# Altium schematic symbol library T-Type Converter.SchLib: 29 symbols
Pins are listed as number, name and electrical type; pins without a type are passive.

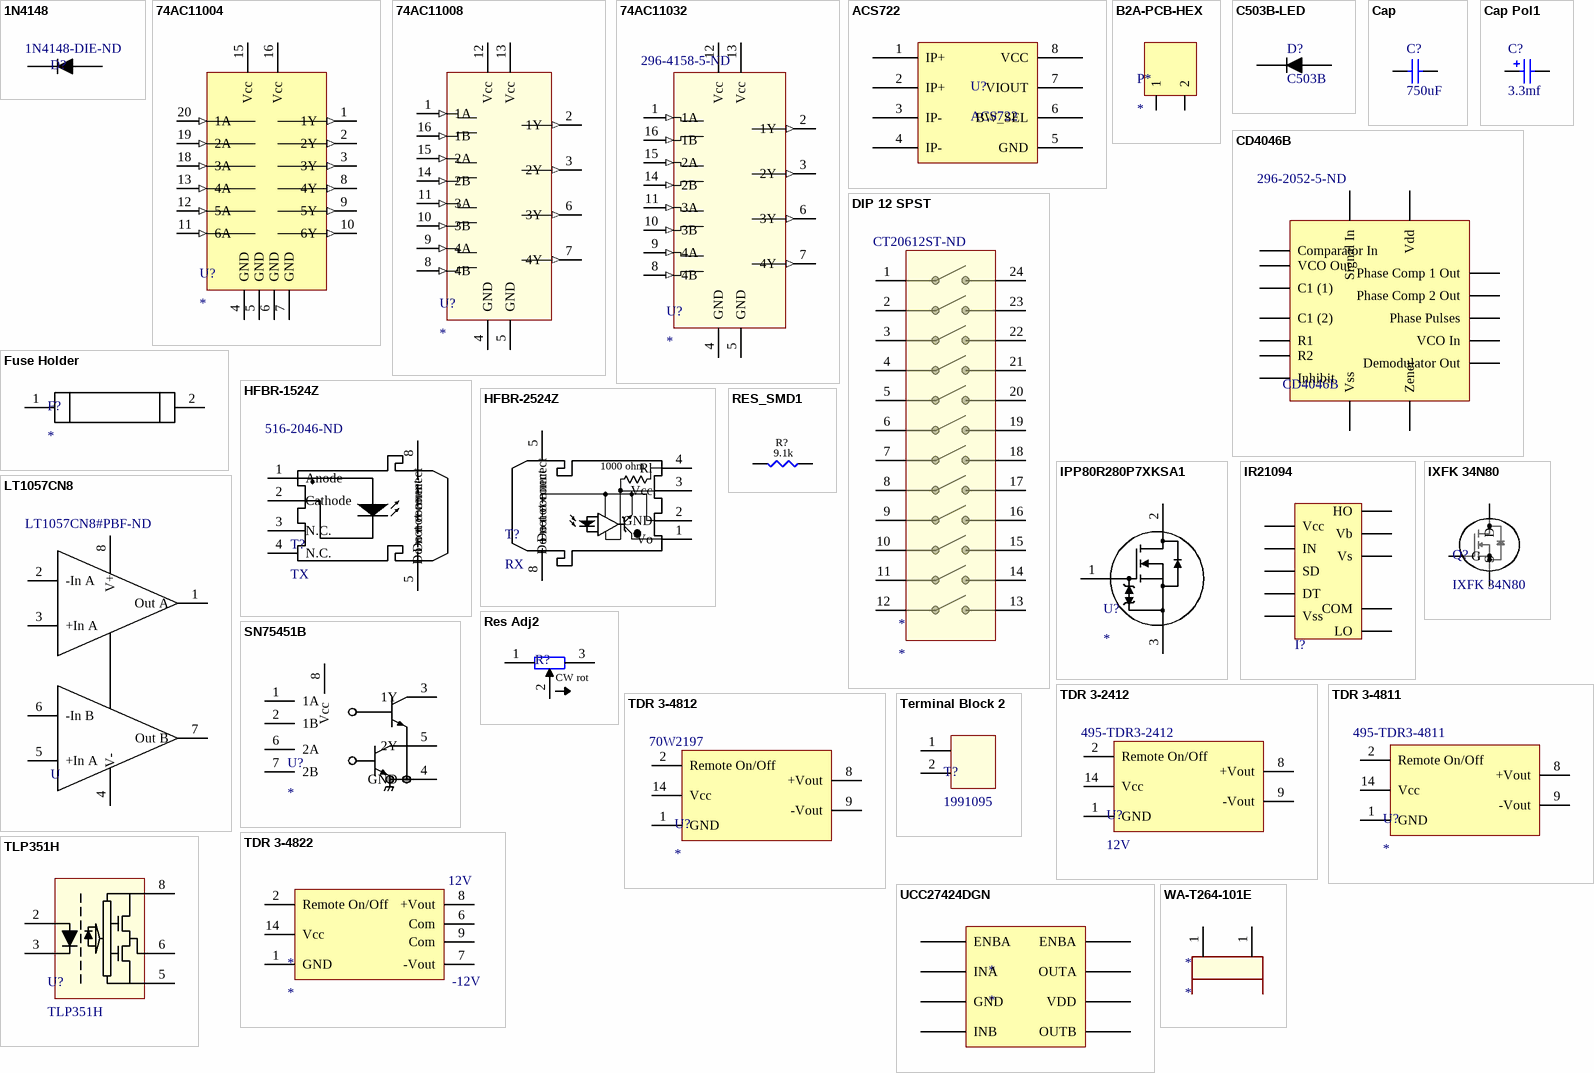
[diagram p0: symbols 1N4148 to WA-T264-101E]

## 1N4148
designator D?  Supplier Part Number 1: 1N4148-DIE-ND  (hidden comment: *)
Diode; Manufacturer: Fairchild Semiconductor; Manufacturer Part Number: 1N4148; Forward Voltage: 1V; Reverse Recovery Time: 4ns; Element Configuration: Single; Polarity: Standard; Current Rating: 200mA; Capacitance: 4pF; Voltage Rating (DC): 100V; Peak Non-Repetitive Surge Current: 4A; Max Forward Surge Current (Ifsm): 1A; Max Power Dissipation: 500mW; Peak Reverse Current: 5uA; Outside Diameter: 1.85mm; Supplier 1: Digi-Key; Stock 1: 0; Pricing 1: 25=4 (USD); Mount: Through Hole; Number of Pins: 2; Weight: 0.01lb; Contact Plating: Tin; Min Operating Temperature: -65°C; Max Operating Temperature: 175°C; Packaging: Bulk; Output Current: 200mA; Forward Current: 200mA; Max Repetitive Reverse Voltage (Vrrm): 100V; Package Quantity: 2000; Recovery Time: 4ns; Max Surge Current: 4A; Reverse Voltage (DC): 100V; Average Rectified Current: 200mA; Power Dissipation: 500mW; Diameter: 1.91mm; Length: 4.56mm; Height: 4.56mm; Width: 1.91mm; Radiation Hardening: No; Lead Free: Lead Free; REACH SVHC: No SVHC; ComponentLink1URL: https://datasheet.ciiva.com/910/1n914-910546.pdf; ComponentLink1Description: https://datasheet.ciiva.com/910/1n914-910546.pdf; ComponentLink2URL: https://datasheet.ciiva.com/1242/1716967-1242233.pdf; ComponentLink2Description: https://datasheet.ciiva.com/1242/1716967-1242233.pdf; ComponentLink3URL: https://datasheet.ciiva.com/3304/fdll914b-3304217.pdf; ComponentLink3Description: https://datasheet.ciiva.com/3304/fdll914b-3304217.pdf; ComponentLink4URL: https://datasheet.ciiva.com/25951/fdll914b-25951516.pdf; ComponentLink4Description: https://datasheet.ciiva.com/25951/fdll914b-25951516.pdf; ComponentLink5URL: https://datasheet.ciiva.com/27049/743285-27049708.pdf; ComponentLink5Description: https://datasheet.ciiva.com/27049/743285-27049708.pdf; ComponentLink6URL: https://datasheet.ciiva.com/16740/1n4148-16740829.pdf; ComponentLink6Description: https://datasheet.ciiva.com/16740/1n4148-16740829.pdf
footprint DO-35_02
pins: 1 Cathode, 2 Anode

## 74AC11004
designator U?
Hex Inverter; Manufacturer: Texas Instruments; Manufacturer Part Number: 74AC11004N; Logic Function: Buffer,Inverter; Number of Elements: 6; Supply Voltage: 5V; Propagation Delay: 10ns; Max Supply Voltage: 5.5V; Min Supply Voltage: 3V; Number of Inputs: 1; Output Current: 24mA; Quiescent Current: 4uA; High Level Output Current: -24mA; Schmitt Trigger Input: No; Supplier 1: Digikey; Stock 1: 747; Pricing 1: 1=2.36, 10=2.12, 100=1.704, 500=1.4, 1000=1.16 (USD); Mount: Through Hole; Case/Package: PDIP; Number of Pins: 20; Weight: 0.042297oz; Contact Plating: Gold; Min Operating Temperature: -40°C; Max Operating Temperature: 85°C; Packaging: Rail/Tube; Package Quantity: 20; Number of Circuits: 6; Low Level Output Current: 24mA; Turn-On Delay Time: 10ns; Number of Gates: 6; Number of Bits: 6; Length: 26.92mm; Height: 4.57mm; Width: 6.6mm; Radiation Hardening: No; Lead Free: Lead Free; REACH SVHC: No SVHC; ComponentLink1URL: https://datasheet.ciiva.com/14289/74ac11004-14289990.pdf; ComponentLink1Description: https://datasheet.ciiva.com/14289/74ac11004-14289990.pdf; ComponentLink2URL: https://datasheet.ciiva.com/1869/74ac11004-1869911.pdf; ComponentLink2Description: https://datasheet.ciiva.com/1869/74ac11004-1869911.pdf; ComponentLink3URL: https://datasheet.ciiva.com/1157/1763878-1157128.pdf; ComponentLink3Description: https://datasheet.ciiva.com/1157/1763878-1157128.pdf; ComponentLink4URL: https://datasheet.ciiva.com/15089/getdatasheetpartid-371764-15089641.pdf; ComponentLink4Description: https://datasheet.ciiva.com/15089/getdatasheetpartid-371764-15089641.pdf; ComponentLink5URL: https://datasheet.ciiva.com/1153/1817335-1153741.pdf; ComponentLink5Description: https://datasheet.ciiva.com/1153/1817335-1153741.pdf; ComponentLink6URL: https://datasheet.ciiva.com/41426/001015348-da-01-en-ic-hex-inverter-7-74ac11004n-pdip-20-tid-41426322.pdf; ComponentLink6Description: https://datasheet.ciiva.com/41426/001015348-da-01-en-ic-hex-inverter-7-74ac11004n-pdip-20-tid-41426322.pdf; Supplier Part Number 1: 296-4153-5-ND
footprint R-PDIP-T20
pins: 1 1Y (out), 2 2Y (out), 3 3Y (out), 4 GND, 5 GND, 6 GND, 7 GND, 8 4Y (out), 9 5Y (out), 10 6Y (out), 11 6A (in), 12 5A (in), 13 4A (in), 15 Vcc (power), 16 Vcc (power), 18 3A (in), 19 2A (in), 20 1A (in)

## 74AC11008
designator U?
AND GATE; Manufacturer: Texas Instruments; Manufacturer Part Number: 74AC11008N; Number of Inputs: 2; Propagation Delay: 6.9ns; Min Supply Voltage: 3V; Max Supply Voltage: 5.5V; Number of Outputs: 1; Supply Voltage: 5V; Output Current: 24mA; Number of Circuits: 4; Quiescent Current: 4uA; High Level Output Current: -24mA; Schmitt Trigger Input: No; Supplier 1: Digikey; Stock 1: 236; Pricing 1: 1=2.36, 10=2.12, 100=1.704, 500=1.4, 1000=1.16 (USD); Mount: Through Hole; Case/Package: DIP; Number of Pins: 16; Weight: 0.03357oz; Contact Plating: Gold; Min Operating Temperature: -40°C; Max Operating Temperature: 85°C; Package Quantity: 25; Packaging: Rail/Tube; Logic Function: AND; Low Level Output Current: 24mA; Number of Gates: 4; Number of Elements: 4; Number of Input Lines: 2; Number of Output Lines: 1; Turn-On Delay Time: 6.9ns; Number of Bits: 4; Length: 19.69mm; Height: 4.57mm; Width: 6.6mm; Radiation Hardening: No; Lead Free: Lead Free; REACH SVHC: No SVHC; ComponentLink1URL: https://datasheet.ciiva.com/1869/74ac11008-1869907.pdf; ComponentLink1Description: https://datasheet.ciiva.com/1869/74ac11008-1869907.pdf; ComponentLink2URL: https://datasheet.ciiva.com/15215/getdatasheetpartid-541532-15215429.pdf; ComponentLink2Description: https://datasheet.ciiva.com/15215/getdatasheetpartid-541532-15215429.pdf; Supplier Part Number 1: 296-4154-5-ND
footprint R-PDIP-T16
pins: 1 1A (in), 2 1Y (out), 3 2Y (out), 4 GND, 5 GND, 6 3Y (out), 7 4Y (out), 8 4B (in), 9 4A (in), 10 3B (in), 11 3A (in), 12 Vcc (power), 13 Vcc (power), 14 2B (in), 15 2A (in), 16 1B (in)

## 74AC11032
designator U?  Supplier Part Number 1: 296-4158-5-ND
OR GATE; Manufacturer: Texas Instruments; Manufacturer Part Number: 74AC11032N; Min Supply Voltage: 3V; Max Supply Voltage: 5.5V; Propagation Delay: 6.7ns; Supply Voltage: 5V; Number of Outputs: 1; Number of Inputs: 2; Number of Circuits: 4; Quiescent Current: 4uA; High Level Output Current: -24mA; Low Level Output Current: 24mA; Schmitt Trigger Input: No; Supplier 1: Digikey; Stock 1: 1085; Pricing 1: 1=2.36, 10=2.12, 100=1.704, 500=1.4, 1000=1.16 (USD); Mount: Through Hole; Case/Package: PDIP; Number of Pins: 16; Weight: 0.03357oz; Contact Plating: Gold; Min Operating Temperature: -40°C; Max Operating Temperature: 85°C; Package Quantity: 25; Packaging: Rail/Tube; Logic Function: OR; Number of Gates: 4; Number of Elements: 4; Output Current: 24mA; Number of Input Lines: 2; Number of Output Lines: 1; Turn-On Delay Time: 6.7ns; Number of Bits: 4; Length: 19.69mm; Height: 4.57mm; Width: 6.6mm; Radiation Hardening: No; Lead Free: Lead Free; REACH SVHC: No SVHC; ComponentLink1URL: https://datasheet.ciiva.com/1153/74ac11032-1153745.pdf; ComponentLink1Description: https://datasheet.ciiva.com/1153/74ac11032-1153745.pdf; ComponentLink2URL: https://datasheet.ciiva.com/1869/74ac11032-1869912.pdf; ComponentLink2Description: https://datasheet.ciiva.com/1869/74ac11032-1869912.pdf
footprint R-PDIP-T16
pins: 1 1A (in), 2 1Y (out), 3 2Y (out), 4 GND, 5 GND, 6 3Y (out), 7 4Y (out), 8 4B (in), 9 4A (in), 10 3B (in), 11 3A (in), 12 Vcc (power), 13 Vcc (power), 14 2B (in), 15 2A (in), 16 1B (in)

## ACS722
designator U?
Hall effect current sensor; Manufacturer: Allegro MicroSystems; Manufacturer Part Number: ACS722LLCTR-40AB-T; Number of Channels: 1; Frequency: 80KHz; Response Time: 5us; Max Supply Current: 12mA; Polarity: Bidirectional; Linearity: 1%; Accuracy: 3%; Current Sensing: 40A; Quiescent Current: 9mA; Supplier 1: Digikey; Stock 1: 11909; Pricing 1: 1=5.54, 5=4.886, 10=4.316, 25=3.5012, 50=3.0942, 100=3.0128, 500=2.5243, 1000=2.3614 (USD); Case/Package: SOIC; Number of Pins: 8; Min Operating Temperature: -40°C; Max Operating Temperature: 150°C; Packaging: Tape and Reel; Bandwidth: 80KHz; ComponentLink1URL: http://components.arrow.com/part/dataview/65167566S746144N6817; ComponentLink1Description: http://components.arrow.com/part/dataview/65167566S746144N6817; Supplier Part Number 1: 620-1639-6-ND
footprint SOIC8
pins: 1 IP+, 2 IP+, 3 IP-, 4 IP-, 5 GND, 6 BW_SEL, 7 VIOUT, 8 VCC

## B2A-PCB-HEX
designator P*
PN: B2A-PCB-HEX; URL: https://lugsdirect.com/IHI_HIGH_CURRENT_PCB-TERMINALS-_SELECTION_CHART2.htm#85A
footprint B2A-PCB-HEX (B2A-PCB-HEX Lug)
pins: 1, 2

## C503B-LED
designator D?, comment C503B
Green TH LED; Supplier 1: Digi-Key; Supplier Part Number 1: C503B-GCN-CY0C0791-ND
footprint CD503-GN-LED (Green LED)
pins: 1 Cathode, 2 Anode

## Cap
designator C?  value 750uF  (hidden comment: Cap)
Capacitor; Published: 8-Jun-2000; LatestRevisionDate: 17-Jul-2002; LatestRevisionNote: Re-released for DXP Platform.; PackageReference: RAD-0.3; Publisher: Altium Limited; PackageDescription: Radial Cap, Thru-Hole; 2 Leads; 0.3 in Pin Spacing
footprint RAD-0.3 (Radial Cap, Thru-Hole; 2 Leads; 0.3 in Pin Spacing)
simulation model CAP (Capacitor)
signal-integrity model Cap
footprint R_1206
pins: 1, 2

## Cap Pol1
designator C?  value 3.3mf  (hidden comment: Cap Pol1)
Polarized Capacitor (Radial); Published: 8-Jun-2000; LatestRevisionDate: 17-Jul-2002; LatestRevisionNote: Re-released for DXP Platform.; PackageReference: RB7.6-15; Publisher: Altium Limited; PackageDescription: Polarized Capacitor (Radial); 2 Leads
footprint RB7.6-15 (Polarized Capacitor (Radial); 2 Leads)
simulation model CAP (Capacitor)
signal-integrity model Cap Pol
footprint LGW2G331MELB40 (Capacitor)
footprint B32674D3126K000 (Film cap)
pins: 1, 2
1 alternate drawing of the same symbol

## CD4046B
designator CD4046B  Supplier Part Number 1: 296-2052-5-ND  (hidden comment: CD4046B)
VCO; Manufacturer: Texas Instruments; Manufacturer Part Number: CD4046BE; Max Supply Voltage: 18V; Min Supply Voltage: 3V; Number of Elements: 1; Frequency: 2.4MHz; Nominal Supply Current: 10mA; Input: CMOS; PLL: Yes; Supplier 1: Digikey; Stock 1: 1216; Pricing 1: 1=0.56, 10=0.476, 100=0.3556, 500=0.2794, 1000=0.2159 (USD); Mount: Through Hole; Case/Package: DIP; Number of Pins: 16; Weight: 0.03357oz; Contact Plating: Gold; Min Operating Temperature: -55°C; Max Operating Temperature: 125°C; Packaging: Rail/Tube; Number of Circuits: 1; Number of Bits: 1; Package Quantity: 25; Max Frequency: 2.4MHz; Radiation Hardening: No; Lead Free: Lead Free; REACH SVHC: No SVHC; ComponentLink1URL: https://datasheet.ciiva.com/14134/cd4046b-eng-tds-14134658.pdf; ComponentLink1Description: https://datasheet.ciiva.com/14134/cd4046b-eng-tds-14134658.pdf; ComponentLink2URL: https://datasheet.ciiva.com/15153/getdatasheetpartid-241639-15153402.pdf; ComponentLink2Description: https://datasheet.ciiva.com/15153/getdatasheetpartid-241639-15153402.pdf; ComponentLink3URL: https://datasheet.ciiva.com/14247/cd4046b-14247052.pdf; ComponentLink3Description: https://datasheet.ciiva.com/14247/cd4046b-14247052.pdf; ComponentLink4URL: https://datasheet.ciiva.com/26229/cd4046b-mil-26229407.pdf; ComponentLink4Description: https://datasheet.ciiva.com/26229/cd4046b-mil-26229407.pdf; ComponentLink5URL: https://datasheet.ciiva.com/27050/817951-27050191.pdf; ComponentLink5Description: https://datasheet.ciiva.com/27050/817951-27050191.pdf; ComponentLink6URL: https://datasheet.ciiva.com/29297/172880-da-01-en-c-mos-ic-cd4046be-dip16-tid-29297245.pdf; ComponentLink6Description: https://datasheet.ciiva.com/29297/172880-da-01-en-c-mos-ic-cd4046be-dip16-tid-29297245.pdf
footprint DIP16
footprint DIP16
pins: 1 Phase Pulses, 2 Phase Comp 1 Out, 3 Comparator In, 4 VCO Out, 5 Inhibit, 6 C1 (1), 7 C1 (2), 8 Vss, 9 VCO In, 10 Demodulator Out, 11 R1, 12 R2, 13 Phase Comp 2 Out, 14 Signal In, 15 Zener, 16 Vdd

## DIP 12 SPST
designator *  Supplier Part Number 1: CT20612ST-ND
Manufacturer: CTS Electrocomponents; Manufacturer Part Number: 206-12ST; Body Material: Plastic; Throw Configuration: SPST; Number of Positions: 12; Voltage Rating (DC): 24V; Max Current Rating: 50mA; Electrical Life: 10000Cycles; Pitch: 0.1inch; Washable: Yes; Supplier 1: Digi-Key; Stock 1: 2620; Pricing 1: 1=1.41, 10=1.33, 25=1.2752, 50=1.194, 100=1.1668, 250=1.0312, 500=0.9769, 1000=0.8684, 5000=0.7598 (USD); Mount: Through Hole; Case/Package: DIP; Contact Plating: Tin,Gold; Contact Material: Copper; Min Operating Temperature: -55°C; Max Operating Temperature: 85°C; Packaging: Rail/Tube; Termination: PC Pin; Package Quantity: 15; Orientation: Straight; Current Rating: 50mA; Length: 1.286inch; Depth: 9.78mm; Terminal Pitch: 2.54mm; Radiation Hardening: No; Lead Free: Lead Free; ComponentLink1URL: https://datasheet.ciiva.com/26926/getdatasheetpartid-771341-26926550.pdf; ComponentLink1Description: https://datasheet.ciiva.com/26926/getdatasheetpartid-771341-26926550.pdf; ComponentLink2URL: https://datasheet.ciiva.com/2864/206-208-2864231.pdf; ComponentLink2Description: https://datasheet.ciiva.com/2864/206-208-2864231.pdf; ComponentLink3URL: https://datasheet.ciiva.com/15184/getdatasheetpartid-112074-15184826.pdf; ComponentLink3Description: https://datasheet.ciiva.com/15184/getdatasheetpartid-112074-15184826.pdf; ComponentLink4URL: https://datasheet.ciiva.com/17068/206-208-17068348.pdf; ComponentLink4Description: https://datasheet.ciiva.com/17068/206-208-17068348.pdf
footprint DIP12 SPST
pins: 1 (power), 2 (power), 3 (power), 4 (power), 5 (power), 6 (power), 7 (power), 8 (power), 9 (power), 10 (power), 11 (power), 12 (power), 13 (power), 14 (power), 15 (power), 16 (power), 17 (power), 18 (power), 19 (power), 20 (power), 21 (power), 22 (power), 23 (power), 24 (power)

## Fuse Holder
designator F?
Fuse Holder; Manufacturer: Littelfuse; Manufacturer Part Number: 01220093Z; Body Material: Copper; Material: Copper,Tin; Current Rating: 30A; Voltage Rating: 250V; Number of Circuits: 1; Supplier 1: Digi-Key; Stock 1: 10489; Pricing 1: 1=0.72, 5=0.696, 10=0.674, 50=0.5672, 100=0.4708, 250=0.428, 500=0.3638, 1000=0.321, 5000=0.2889 (USD); Mount: Horizontal,PCB; Packaging: Bulk; Package Quantity: 1000; Termination: PC Pin; Voltage: 250V; Length: 7.11mm; Height: 10.67mm; Width: 7.87mm; Depth: 9.4mm; Lead Free: Lead Free; ComponentLink1URL: https://datasheet.ciiva.com/295/littelfuse-fuse-clips-295529.pdf; ComponentLink1Description: https://datasheet.ciiva.com/295/littelfuse-fuse-clips-295529.pdf; Supplier Part Number 1: F4185-ND
footprint Fuse footprint
pins: 1 (power), 2 (power)

## HFBR-1524Z
designator T?, comment TX  Supplier Part Number 1: 516-2046-ND
Otical Transmitter; Manufacturer: Broadcom Avago; Manufacturer Part Number: HFBR-1524Z; Wavelength: 660nm; Capacitance: 86pF; Forward Voltage: 1.67V; Data Rate: 1Mbps; Reverse Voltage (DC): 5V; Forward Current: 80mA; Max Output Current: 5.1mA; Rise Time: 80ns; Fall Time: 40ns; Supplier 1: Digikey; Stock 1: 1574; Pricing 1: 1=11.66, 10=10.56, 25=8.36, 100=7.04, 250=6.6, 500=6.05, 1000=5.72 (USD); Mount: Through Hole; Case/Package: 600; Number of Pins: 6; Min Operating Temperature: -40°C; Max Operating Temperature: 85°C; Package Quantity: 200; Supply Voltage: 5V; Packaging: Rail/Tube; Length: 18.8mm; Height: 7.62mm; Width: 10.2mm; Radiation Hardening: No; REACH SVHC: No SVHC; Lead Free: Lead Free; ComponentLink1URL: https://datasheet.ciiva.com/27056/2062150-27056536.pdf; ComponentLink1Description: https://datasheet.ciiva.com/27056/2062150-27056536.pdf; ComponentLink2URL: https://datasheet.ciiva.com/18408/70158101-18408620.pdf; ComponentLink2Description: https://datasheet.ciiva.com/18408/70158101-18408620.pdf; ComponentLink3URL: https://datasheet.ciiva.com/26913/hfbr-1524z-26913686.pdf; ComponentLink3Description: https://datasheet.ciiva.com/26913/hfbr-1524z-26913686.pdf
footprint Optics
footprint Optics
pins: 1 Anode, 2 Cathode, 3 N.C., 4 N.C., 5 Do not connect, 8 Do not connect

## HFBR-2524Z
designator T?, comment RX
Optical Reciever
footprint Optics
pins: 1 Vo, 2 GND, 3 Vcc, 4 Rl, 5 Do not connect, 8 Do not connect
text: 1000 ohm

## IPP80R280P7XKSA1
designator U?
MOSFET; Manufacturer: Infineon; Manufacturer Part Number: IPP80R280P7XKSA1; Supplier 1: Digikey; Stock 1: 370; Pricing 1: 1=3.89, 10=3.495, 100=2.8638, 500=2.4379, 1000=2.0561 (USD); Supplier Part Number 1: IPP80R280P7XKSA1-ND
footprint IPP65R110CFD
pins: 1 Gate, 2 Drain, 3 Source

## IR21094
designator I?  (value not drawn)
HALF-BRIDGE DRIVER
footprint DIP14
pins: 1 Vcc, 2 IN, 3 SD, 4 DT, 5 Vss, 6 COM, 7 LO, 11 Vs, 12 HO, 13 Vb

## IXFK 34N80
designator Q?
MOSFET 34A; Manufacturer: IXYS; Rise Time: 45ns; Rds On Max: 240mR; Input Capacitance: 7.5nF; Recovery Time: 250ns; Drain to Source Breakdown Voltage: 800V; Fall Time: 40ns; Power Dissipation: 560W; Turn-Off Delay Time: 100ns; Element Configuration: Single; Gate to Source Voltage (Vgs): 20V; Supplier 1: Digikey; Manufacturer Part Number: IXFK34N80; Stock 1: 25; Pricing 1: 1=22.64, 10=20.94, 25=19.2424, 100=17.884, 250=16.4126 (USD); Case/Package: TO-264-3; Min Operating Temperature: -55°C; Max Operating Temperature: 150°C; Package Quantity: 25; Packaging: Rail/Tube; Continuous Drain Current (ID): 34A; Drain to Source Resistance: 240mR; Drain to Source Voltage (Vdss): 800V; Max Power Dissipation: 560W; Current Rating: 34A; Voltage Rating (DC): 800V; Lead Free: Lead Free; ComponentLink1URL: https://datasheet.ciiva.com/4446/98560-63299-4446514.pdf; ComponentLink1Description: https://datasheet.ciiva.com/4446/98560-63299-4446514.pdf; ComponentLink2URL: https://datasheet.ciiva.com/16298/98560-16298076.pdf; ComponentLink2Description: https://datasheet.ciiva.com/16298/98560-16298076.pdf; ComponentLink3URL: https://datasheet.ciiva.com/940/98560-940430.pdf; ComponentLink3Description: https://datasheet.ciiva.com/940/98560-940430.pdf; ComponentLink4URL: https://datasheet.ciiva.com/14110/tb612985-e-14110030.pdf; ComponentLink4Description: https://datasheet.ciiva.com/14110/tb612985-e-14110030.pdf; ComponentLink5URL: https://datasheet.ciiva.com/26791/ixfk34n80-26791415.pdf; ComponentLink5Description: https://datasheet.ciiva.com/26791/ixfk34n80-26791415.pdf; Supplier Part Number 1: IXFK34N80-ND
footprint TO-264 AA (Power Mosfet)
pins: 1 G, 2 D, 3 S

## LT1057CN8
designator U  Supplier Part Number 2: LT1057CN8#PBF-ND  (hidden comment: LT1057CN8)
Dual Op-Amp; Manufacturer: STMicroelectronics; Manufacturer Part Number: LMV321LICT; Min Supply Voltage: 2.7V; Max Supply Voltage: 5.5V; Voltage Gain: 100dB; Common Mode Rejection Ratio: 72dB; Gain Bandwidth Product: 1.3MHz; Slew Rate: 0.7V/µs; Number of Channels: 1; Output Current: 46mA; Nominal Supply Current: 220uA; Input Bias Current: 27nA; Input Offset Voltage (Vos): 1mV; Operating Supply Current: 130uA; Output Current per Channel: 70mA; Dual Supply Voltage: 9V; Min Dual Supply Voltage: 4V; Max Dual Supply Voltage: 20V; Nominal Gain Bandwidth Product: 5MHz; Power Supply Rejection Ratio (PSRR): 86dB; Max Supply Current: 5.6mA; Number of Amplifiers: 2; Supplier 1: Digi-Key; Stock 1: 42978; Pricing 1: 1=0.45, 10=0.363, 100=0.2472, 500=0.1854, 1000=0.1391 (USD); Mount: Surface Mount; Case/Package: SC; Number of Pins: 5; Contact Plating: Tin; Min Operating Temperature: -40°C; Max Operating Temperature: 125°C; Package Quantity: 1; Packaging: Tape and Reel; Number of Circuits: 1; Number of Elements: 1; Unity Gain Bandwidth Product: 1.3MHz; Radiation Hardening: No; Lead Free: Lead Free; ComponentLink1URL: https://datasheet.ciiva.com/6629/dm00052423-6629957.pdf; ComponentLink1Description: https://datasheet.ciiva.com/6629/dm00052423-6629957.pdf; ComponentLink2URL: https://datasheet.ciiva.com/6629/dm00052423-6629958.pdf; ComponentLink2Description: https://datasheet.ciiva.com/6629/dm00052423-6629958.pdf; ComponentLink3URL: https://datasheet.ciiva.com/13063/dm00052423-100852-13063497.pdf; ComponentLink3Description: https://datasheet.ciiva.com/13063/dm00052423-100852-13063497.pdf; ComponentLink4URL: https://datasheet.ciiva.com/16394/dm00052423-16394346.pdf; ComponentLink4Description: https://datasheet.ciiva.com/16394/dm00052423-16394346.pdf; ComponentLink5URL: https://datasheet.ciiva.com/2966/dm00052423-2966011.pdf; ComponentLink5Description: https://datasheet.ciiva.com/2966/dm00052423-2966011.pdf; ComponentLink6URL: https://datasheet.ciiva.com/41459/001184777-da-01-en-ic-op-amp-sgl-r-r-lmv321lict-sc-70-5-stm-41459586.pdf; ComponentLink6Description: https://datasheet.ciiva.com/41459/001184777-da-01-en-ic-op-amp-sgl-r-r-lmv321lict-sc-70-5-stm-41459586.pdf; Supplier Part Number 1: 497-13050-6-ND; Supplier 2: Digi-Key; Stock 2: 1166; Pricing 2: 1=4.92, 25=3.27, 100=2.55 (USD); Bandwidth: 5MHz; Length: 10.16mm; Height: 3.3mm; Width: 6.48mm; REACH SVHC: No SVHC; ComponentLink7URL: https://datasheet.ciiva.com/19474/1728554-19474778.pdf; ComponentLink7Description: https://datasheet.ciiva.com/19474/1728554-19474778.pdf; ComponentLink8URL: https://datasheet.ciiva.com/1794/3824-1794779.pdf; ComponentLink8Description: https://datasheet.ciiva.com/1794/3824-1794779.pdf; ComponentLink9URL: https://datasheet.ciiva.com/5704/1712178-5704285.pdf; ComponentLink9Description: https://datasheet.ciiva.com/5704/1712178-5704285.pdf; ComponentLink10URL: https://datasheet.ciiva.com/26344/679699-da-01-en-ic-lt1057cn8-pbf-pdip-8-ltc-26344373.pdf; ComponentLink10Description: https://datasheet.ciiva.com/26344/679699-da-01-en-ic-lt1057cn8-pbf-pdip-8-ltc-26344373.pdf
footprint N8 PDIP
pins: 1 Out A (power), 2 -In A (power), 3 +In A (power), 4 V- (power), 5 +In A (power), 6 -In B (power), 7 Out B (power), 8 V+ (power)

## Res Adj2
designator R?  (value not drawn)
Variable Resistor; Manufacturer: Nidec Copal; Manufacturer Part Number: CT-6EP103; Set Position: 0.5; Resistance: 10KR; Tolerance: 10%; Number of Turns: 1; Max Power Dissipation: 500mW; Temperature Coefficient: 100ppm/°C; Published: 8-Jun-2000; LatestRevisionDate: 17-Jul-2002; LatestRevisionNote: Re-released for DXP Platform.; PackageReference: AXIAL-0.6; Publisher: Altium Limited; PackageDescription: Axial Device, Thru-Hole; 2 Leads; 0.6 in Pin Spacing; Supplier 1: Digikey; Stock 1: 31633; Pricing 1: 1=0.79, 10=0.711, 25=0.6428, 50=0.6196, 100=0.5852, 250=0.5623, 500=0.5279, 1000=0.4361, 5000=0.3557 (USD); Mount: Through Hole; Weight: 510mg; Colour: Blue; Contact Plating: Tin; Min Operating Temperature: -55°C; Max Operating Temperature: 120°C; Packaging: Bulk; Composition: Potentiometer; Termination: PC Pins; Length: 0.228inch; Lead Free: Lead Free; ComponentLink1URL: https://datasheet.ciiva.com/2156/ct-6-2156122.pdf; ComponentLink1Description: https://datasheet.ciiva.com/2156/ct-6-2156122.pdf; Supplier Part Number 1: CT6EP103-ND
footprint AXIAL-0.6 (Axial Device, Thru-Hole; 2 Leads; 0.6 in Pin Spacing)
simulation model VRES (Variable Resistor)
signal-integrity model Res Adj
footprint CT-6EP (pot)
pins: 1, 2 3, 3
text: CW rot

## RES_SMD1
designator R?, comment 9.1k
RES SMD 1% 1/4W 1206; Manufacturer: Panasonic Electronic Components; Manufacturer Part Number: ERJ-8ENF9101V; Power (Watts): 0.25W, 1/4W; Temperature Coefficient: ±100ppm/°C; Supplier 1: Digi-Key; RoHS: RoHS Compliant; Category: Resistors; Stock 1: 17632; Pricing 1: 1=0.15, 50=0.0424, 100=0.0313, 250=0.02384, 500=0.01908, 1000=0.01404 (CAD); Packaging: Digi-Reel®; Part Status: Active; Value: 9.1k; Tolerance: ±1%; Composition: Thick Film; Features: Automotive AEC-Q200; Operating Temperature: -55°C ~ 155°C; Package / Case: 1206 (3216 Metric); Supplier Device Package: 1206; Size / Dimension: 0.126" L x 0.063" W (3.20mm x 1.60mm); Height: 0.028" (0.70mm); Number of Terminations: 2; Failure Rate: -; ComponentLink1URL: http://industrial.panasonic.com/www-cgi/jvcr13pz.cgi?E+PZ+3+AOA0002+ERJ8ENF9101V+7+WW; ComponentLink1Description: http://industrial.panasonic.com/www-cgi/jvcr13pz.cgi?E+PZ+3+AOA0002+ERJ8ENF9101V+7+WW; Supplier Part Number 1: P9.10KFDKR-ND
footprint R_1206
pins: 1, 2

## SN75451B
designator U?
Dual Peripheral Drivers; Manufacturer: Texas Instruments; Manufacturer Part Number: SN75451BP; Number of Outputs: 2; Output Voltage: 30V; Output Current: 400mA; Propagation Delay: 25ns; Nominal Supply Current: 65mA; Turn-On Delay Time: 8ns; Turn-Off Delay Time: 12ns; Max Input Voltage: 5.5V; Max Power Dissipation: 1W; Min Supply Voltage: 4.75V; Max Supply Voltage: 5.25V; Supplier 1: Digi-Key; Stock 1: 2217; Pricing 1: 1=0.89, 10=0.794, 100=0.6187, 500=0.5111, 1000=0.4035 (USD); Case/Package: PDIP; Number of Pins: 8; Weight: 0.015535oz; Min Operating Temperature: 0°C; Max Operating Temperature: 70°C; Packaging: Rail/Tube; Package Quantity: 50; Number of Drivers: 2; Power Dissipation: 1W; Max Supply Current: 65mA; Length: 9.81mm; Height: 4.57mm; Width: 6.35mm; Radiation Hardening: No; Lead Free: Lead Free; REACH SVHC: No SVHC; ComponentLink1URL: https://datasheet.ciiva.com/1501/1387986-1501952.pdf; ComponentLink1Description: https://datasheet.ciiva.com/1501/1387986-1501952.pdf; ComponentLink2URL: https://datasheet.ciiva.com/1609/slrs021b-1609184.pdf; ComponentLink2Description: https://datasheet.ciiva.com/1609/slrs021b-1609184.pdf; ComponentLink3URL: https://datasheet.ciiva.com/15115/getdatasheetpartid-134903-15115475.pdf; ComponentLink3Description: https://datasheet.ciiva.com/15115/getdatasheetpartid-134903-15115475.pdf; ComponentLink4URL: https://datasheet.ciiva.com/14180/nr645830-645832-e-14180149.pdf; ComponentLink4Description: https://datasheet.ciiva.com/14180/nr645830-645832-e-14180149.pdf; ComponentLink5URL: https://datasheet.ciiva.com/3303/sn75453b-3303271.pdf; ComponentLink5Description: https://datasheet.ciiva.com/3303/sn75453b-3303271.pdf; ComponentLink6URL: https://datasheet.ciiva.com/16470/sn75453b-16470791.pdf; ComponentLink6Description: https://datasheet.ciiva.com/16470/sn75453b-16470791.pdf; ComponentLink7URL: https://datasheet.ciiva.com/26229/sn75453b-26229559.pdf; ComponentLink7Description: https://datasheet.ciiva.com/26229/sn75453b-26229559.pdf; ComponentLink8URL: https://datasheet.ciiva.com/19477/1054748-19477417.pdf; ComponentLink8Description: https://datasheet.ciiva.com/19477/1054748-19477417.pdf; ComponentLink9URL: https://datasheet.ciiva.com/1949/sn75452b-1949982.pdf; ComponentLink9Description: https://datasheet.ciiva.com/1949/sn75452b-1949982.pdf; ComponentLink10URL: https://datasheet.ciiva.com/1501/1829915-1501951.pdf; ComponentLink10Description: https://datasheet.ciiva.com/1501/1829915-1501951.pdf; ComponentLink11URL: https://datasheet.ciiva.com/41462/001014510-da-01-en-ic-dual-peripheral-sn75451bp-pdip-8-tid-41462363.pdf; ComponentLink11Description: https://datasheet.ciiva.com/41462/001014510-da-01-en-ic-dual-peripheral-sn75451bp-pdip-8-tid-41462363.pdf; Supplier Part Number 1: 296-1746-5-ND
footprint R-PDIP-T8
pins: 1 1A (power), 2 1B (power), 3 1Y (power), 4 GND (power), 5 2Y (power), 6 2A (power), 7 2B (power), 8 Vcc (power)

## TDR 3-2412
designator U?, comment 12V  Supplier Part Number 1: 495-TDR3-2412
12V DC-DC Converter; Manufacturer: Traco Power; Manufacturer Part Number: TDR3-2412; Nominal Input Voltage: 24V; Output Current: 250mA; Number of Outputs: 1; Efficiency: 82%; Min Input Voltage: 18V; Max Input Voltage: 36V; Max Output Power: 3W; Isolation Voltage: 1.5kV; Supplier 1: Mouser; Stock 1: 9; Pricing 1: 1=31.28, 10=29.54, 50=25.71, 100=25.71, 1000=25.71, 10000=25.71 (USD); Case/Package: DIP; Min Operating Temperature: -40°C; Max Operating Temperature: 85°C; Output Voltage: 12V; Nominal Output Voltage: 12V; Max Output Current: 250mA; Min Input Voltage (DC): 18V; Max Input Voltage (DC): 36V; Voltage - Output 1: 12V; Current - Output 1: 250mA; Length: 18.9mm; Height: 8.7mm; Width: 12.8mm; Depth: 18.9mm; REACH SVHC: No SVHC; ComponentLink1URL: http://uk.rs-online.com/webdocs/0e35/0900766b80e35ed7.pdf; ComponentLink1Description: http://uk.rs-online.com/webdocs/0e35/0900766b80e35ed7.pdf; ComponentLink2URL: http://www.farnell.com/datasheets/1763516.pdf; ComponentLink2Description: http://www.farnell.com/datasheets/1763516.pdf; ComponentLink3URL: http://docs-usa.electrocomponents.com/techlib:/itc_doclist_US.htm?stockno=7065593; ComponentLink3Description: http://docs-usa.electrocomponents.com/techlib:/itc_doclist_US.htm?stockno=7065593
footprint PID DC-DC Converter - duplicate
pins: 1 GND (power), 2 Remote On/Off, 8 +Vout, 9 -Vout, 14 Vcc

## TDR 3-4811
designator U?  Supplier Part Number 1: 495-TDR3-4811
48V-5V Converter; Manufacturer: Traco Power; Manufacturer Part Number: TDR3-4811; Nominal Input Voltage: 48V; Output Voltage: 5V; Output Current: 600mA; Number of Outputs: 1; Efficiency: 81%; Min Input Voltage: 36V; Max Input Voltage: 75V; Max Output Power: 3W; Isolation Voltage: 1.5kV; Isolation: Isolated; Supplier 1: Mouser; Stock 1: 10; Pricing 1: 1=31.28, 10=29.54, 50=25.71, 100=25.71, 1000=25.71, 10000=25.71 (USD); Case/Package: DIP; Number of Pins: 7; Min Operating Temperature: -40°C; Max Operating Temperature: 85°C; Nominal Output Voltage: 5V; Max Output Current: 600mA; Min Input Voltage (DC): 36V; Max Input Voltage (DC): 75V; Voltage - Output 1: 5V; Current - Output 1: 600mA; Packaging: Rail/Tube; Length: 18.9mm; Height: 8.7mm; Width: 12.8mm; Depth: 18.9mm; REACH SVHC: No SVHC; ComponentLink1URL: https://datasheet.ciiva.com/28438/1763516-28438522.pdf; ComponentLink1Description: https://datasheet.ciiva.com/28438/1763516-28438522.pdf
footprint PID DC-DC Converter - duplicate
pins: 1 GND (power), 2 Remote On/Off, 8 +Vout, 9 -Vout, 14 Vcc

## TDR 3-4812
designator U?  Supplier Part Number 1: 70W2197
48V-12V Converter; Manufacturer: Traco Power; Manufacturer Part Number: TDR3-4812WI; Nominal Input Voltage: 48V; Output Voltage: 12V; Output Current: 250mA; Number of Outputs: 1; Efficiency: 81%; Min Input Voltage: 36V; Max Input Voltage: 75V; Min Input Voltage (DC): 18V; Isolation Voltage: 1.5kV; Max Output Power: 3W; Supplier 1: Newark; Stock 1: 0; Min Operating Temperature: -40°C; Max Operating Temperature: 85°C; Nominal Output Voltage: 12V; Max Output Current: 250mA; Max Input Voltage (DC): 75V; Voltage - Output 1: 12V; Current - Output 1: 250mA; Length: 18.9mm; Height: 8.7mm; Width: 12.8mm; Depth: 18.9mm; REACH SVHC: No SVHC; ComponentLink1URL: https://datasheet.ciiva.com/7625/1763545-7625255.pdf; ComponentLink1Description: https://datasheet.ciiva.com/7625/1763545-7625255.pdf; ComponentLink2URL: https://datasheet.ciiva.com/3356/tdr3wi-eng-tds-3356635.pdf; ComponentLink2Description: https://datasheet.ciiva.com/3356/tdr3wi-eng-tds-3356635.pdf; ComponentLink3URL: https://datasheet.ciiva.com/26336/157237-da-01-de-dc-dc-wandler-tdr-3-4812wi-26336242.pdf; ComponentLink3Description: https://datasheet.ciiva.com/26336/157237-da-01-de-dc-dc-wandler-tdr-3-4812wi-26336242.pdf
footprint PID DC-DC Converter - duplicate
pins: 1 GND (power), 2 Remote On/Off, 8 +Vout, 9 -Vout, 14 Vcc

## TDR 3-4822
designator *  Voltage - Output 1: 12V  Voltage - Output 2: -12V
48 +/-12V Converter; Manufacturer: Traco Power; Manufacturer Part Number: TDR3-4822; Min Input Voltage (DC): 36V; Max Input Voltage: 75V; Number of Outputs: 2; Max Output Current: 125mA; Nominal Input Voltage: 48V; Efficiency: 82%; Max Output Power: 3W; Isolation Voltage: 1.5kV; Isolation: Isolated; Supplier 1: Newark; Stock 1: 10; Pricing 1: 1=31.75, 25=29.09, 50=27.03, 100=26.14, 250=25.25 (USD); Case/Package: DIP; Number of Pins: 7; Min Operating Temperature: -40°C; Max Operating Temperature: 85°C; Nominal Output Voltage: -12V; Min Input Voltage: 36V; Max Input Voltage (DC): 75V; Output Voltage: 12V; Output Current: 125mA; Current - Output 1: 125mA; Current - Output 2: 125mA; Packaging: Rail/Tube; Length: 18.9mm; Height: 8.7mm; Width: 12.8mm; Depth: 18.9mm; REACH SVHC: No SVHC; ComponentLink1URL: http://components.arrow.com/part/dataview/0323_02838307; ComponentLink1Description: http://components.arrow.com/part/dataview/0323_02838307; ComponentLink2URL: http://www.farnell.com/datasheets/1763516.pdf; ComponentLink2Description: http://www.farnell.com/datasheets/1763516.pdf; ComponentLink3URL: http://uk.rs-online.com/webdocs/0e35/0900766b80e35ed7.pdf; ComponentLink3Description: http://uk.rs-online.com/webdocs/0e35/0900766b80e35ed7.pdf; ComponentLink4URL: http://docs-usa.electrocomponents.com/techlib:/itc_doclist_US.htm?stockno=7065629; ComponentLink4Description: http://docs-usa.electrocomponents.com/techlib:/itc_doclist_US.htm?stockno=7065629; Supplier Part Number 1: 20X0418
footprint PID DC-DC Converter - duplicate
pins: 1 GND (power), 2 Remote On/Off, 6 Com (power), 7 -Vout, 8 +Vout, 9 Com (power), 14 Vcc

## Terminal Block 2
designator T?, comment 1991095
2 way terminal block; Manufacturer: Phoenix Contact; Colour: Green; Number of Contacts: 2; Wire Gauge (Max): 24AWG; Wire Gauge (Min): 12AWG; Voltage Rating: 400V; Current Rating: 24A; Number of Levels: 1; Current: 20A; Voltage: 300V; Pitch: 5mm; Approvals: UL; Supplier 1: Digi-Key; Manufacturer Part Number: 1991095; Stock 1: 1914; Pricing 1: 1=1.13, 10=1.078, 50=1.0486, 100=0.98, 250=0.9016, 500=0.833, 1000=0.7938, 2500=0.7448 (USD); Mount: Through Hole; Weight: 0.102294oz; Housing Colour: Green; Housing Material: Nylon; Termination: Screwless; Package Quantity: 100; Packaging: Bulk; Number of Poles: 2; Number of Positions Per Level: 2; Number of Positions: 2; Number of Rows: 1; Max Current Rating: 24A; Number of Circuits: 2; Orientation: Straight; Length: 11.4mm; Width: 14.4mm; Depth: 13.5mm; Lead Free: Lead Free; ComponentLink1URL: https://datasheet.ciiva.com/6752/1991095-6752880.pdf; ComponentLink1Description: https://datasheet.ciiva.com/6752/1991095-6752880.pdf; ComponentLink2URL: https://datasheet.ciiva.com/16051/1991095-16051374.pdf; ComponentLink2Description: https://datasheet.ciiva.com/16051/1991095-16051374.pdf; ComponentLink3URL: https://datasheet.ciiva.com/29222/774864-da-01-en-printklemme-1991095-100-st-29222380.pdf; ComponentLink3Description: https://datasheet.ciiva.com/29222/774864-da-01-en-printklemme-1991095-100-st-29222380.pdf; Supplier Part Number 1: 277-6267-ND
footprint Terminal Pad
pins: 1 (power), 2 (power)

## TLP351H
designator U?
Photocoupler Driver; Manufacturer: Toshiba; Description: TOSHIBA         TLP351H             OPTOCOUPLER, GATE DRIVER, 3.75KV, DIP-8; Number of Channels: 1; Isolation Voltage: 3.75kV; Supplier 1: Newark; Manufacturer Part Number: TLP351H; Stock 1: 544; Case/Package: DIP; Number of Pins: 8; REACH SVHC: Unknown; ComponentLink1URL: http://www.farnell.com/datasheets/2017846.pdf; ComponentLink1Description: http://www.farnell.com/datasheets/2017846.pdf; Supplier Part Number 1: 78Y6824
footprint 11-10C4S
pins: 2 (power), 3 (power), 5 (power), 6 (power), 8 (power)

## UCC27424DGN
designator *
Driver
footprint SOIC8
pins: 1 ENBA, 2 INA, 3 GND, 4 INB, 5 OUTB, 6 VDD, 7 OUTA, 8 ENBA

## WA-T264-101E
designator *
Heat Sink
footprint Heatsink (WA-T264-101E)
pins: 1 (power), 1 (power)